# Altium footprint library QFN_Rect_50P_Side_V.PcbLib: 6 footprints
Each footprint in its own frame and in the unit in brackets; x right, y up, seen from the top. Pads: shape width x height; smd on the part's side, far side on the other; paste and mask are expansions set on the pad; w line width, h text height; cw(c..) or ccw(c..) is an arc to the next point about the centre after c.
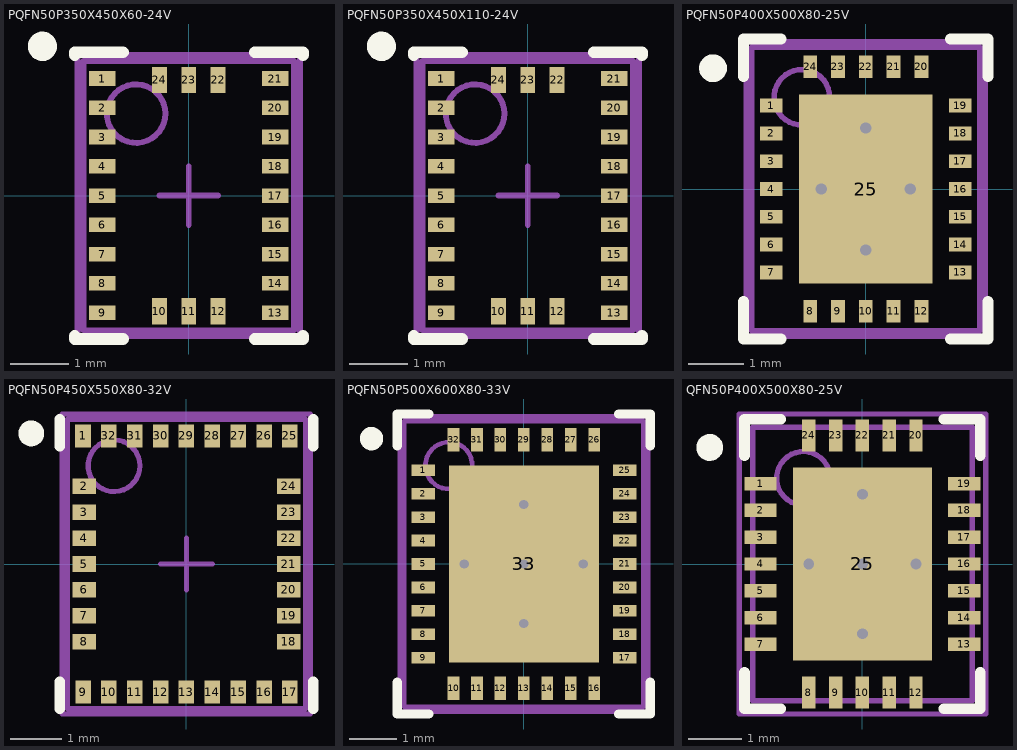
[diagram p0: the footprints below, top view; thin cyan lines are the x and y axes]

## PQFN50P350X450X60-24V [mm] "PQFN, 24-Leads (9x3 pads), Body 3.5x4.5mm, Pitch 0.5mm, NSC Recommended"
height 0.6
pads (24):
  rect 0.45x0.25 smd paste-0.125 mask+0.051: 1(-1.475,2) 2(-1.475,1.5) 3(-1.475,1) 4(-1.475,0.5) 5(-1.475,0) 6(-1.475,-0.5) 7(-1.475,-1) 8(-1.475,-1.5) 9(-1.475,-2) 13(1.475,-2) 14(1.475,-1.5) 15(1.475,-1) 16(1.475,-0.5) 17(1.475,0) 18(1.475,0.5) 19(1.475,1) 20(1.475,1.5) 21(1.475,2)
  rect 0.25x0.45 smd paste-0.125 mask+0.051: 10(-0.5,-1.975) 11(0,-1.975) 12(0.5,-1.975) 22(0.5,1.975) 23(0,1.975) 24(-0.5,1.975)
Top Overlay:
  circle w0.25: c-2.5,2.55 r0.125
  lines w0.2: -1.95,-2.4 -1.95,-2.45 -1.125,-2.45 ; -1.95,2.4 -1.95,2.45 -1.125,2.45 ; 1.125,-2.45 1.95,-2.45 1.95,-2.4 ; 1.125,2.45 1.95,2.45 1.95,2.4
Top Paste:
  rectangle: -1.8,-0.625 -1.35,-0.375
  rectangle: -1.8,-0.125 -1.35,0.125
  rectangle: -1.8,0.375 -1.35,0.625
  rectangle: -1.8,-2.125 -1.35,-1.875
  rectangle: -1.8,-1.625 -1.35,-1.375
  rectangle: -1.8,-1.125 -1.35,-0.875
  rectangle: -1.8,0.875 -1.35,1.125
  rectangle: -1.8,1.375 -1.35,1.625
  rectangle: -1.8,1.875 -1.35,2.125
  region: 1.8,2.125 1.35,2.125 1.35,1.875 1.8,1.875
  region: 1.8,1.625 1.35,1.625 1.35,1.375 1.8,1.375
  region: 1.8,1.125 1.35,1.125 1.35,0.875 1.8,0.875
  region: 1.8,0.625 1.35,0.625 1.35,0.375 1.8,0.375
  region: 1.8,0.125 1.35,0.125 1.35,-0.125 1.8,-0.125
  region: 1.8,-0.375 1.35,-0.375 1.35,-0.625 1.8,-0.625
  region: 1.8,-0.875 1.35,-0.875 1.35,-1.125 1.8,-1.125
  region: 1.8,-1.375 1.35,-1.375 1.35,-1.625 1.8,-1.625
  region: 1.8,-1.875 1.35,-1.875 1.35,-2.125 1.8,-2.125
  region: -0.375,-2.3 -0.375,-1.85 -0.625,-1.85 -0.625,-2.3
  region: 0.125,-2.3 0.125,-1.85 -0.125,-1.85 -0.125,-2.3
  region: 0.625,-2.3 0.625,-1.85 0.375,-1.85 0.375,-2.3
  region: 0.375,2.3 0.375,1.85 0.625,1.85 0.625,2.3
  region: -0.125,2.3 -0.125,1.85 0.125,1.85 0.125,2.3
  region: -0.625,2.3 -0.625,1.85 -0.375,1.85 -0.375,2.3
Mechanical 13:
  circle w0.1: c-0.9,1.4 r0.5
  lines w0.1: -1.8,-2.3 -1.8,2.3 1.8,2.3 1.8,-2.3 -1.8,-2.3
Mechanical 15:
  lines w0.1: -0.5,0 0.5,0 ; 0,-0.5 0,0.5 ; -1.9,-2.4 -1.9,2.4 1.9,2.4 1.9,-2.4 -1.9,-2.4
3D body: height 0.6, standoff 0, extent -1.8,-2.3 1.8,2.3

## PQFN50P350X450X110-24V [mm] "PQFN, 24-Leads (9x3 pads), Body 3.5x4.5mm, Pitch 0.5mm, NSC Recommended"
height 1.1
pads (24):
  rect 0.45x0.25 smd paste-0.125 mask+0.051: 1(-1.475,2) 2(-1.475,1.5) 3(-1.475,1) 4(-1.475,0.5) 5(-1.475,0) 6(-1.475,-0.5) 7(-1.475,-1) 8(-1.475,-1.5) 9(-1.475,-2) 13(1.475,-2) 14(1.475,-1.5) 15(1.475,-1) 16(1.475,-0.5) 17(1.475,0) 18(1.475,0.5) 19(1.475,1) 20(1.475,1.5) 21(1.475,2)
  rect 0.25x0.45 smd paste-0.125 mask+0.051: 10(-0.5,-1.975) 11(0,-1.975) 12(0.5,-1.975) 22(0.5,1.975) 23(0,1.975) 24(-0.5,1.975)
Top Overlay:
  circle w0.25: c-2.5,2.55 r0.125
  lines w0.2: -1.95,-2.4 -1.95,-2.45 -1.125,-2.45 ; -1.95,2.4 -1.95,2.45 -1.125,2.45 ; 1.125,-2.45 1.95,-2.45 1.95,-2.4 ; 1.125,2.45 1.95,2.45 1.95,2.4
Top Paste:
  region: -1.8,-1.875 -1.8,-2.125 -1.35,-2.125 -1.35,-1.875
  region: 0.375,2.3 0.375,1.85 0.625,1.85 0.625,2.3
  region: -0.125,2.3 -0.125,1.85 0.125,1.85 0.125,2.3
  region: -0.625,2.3 -0.625,1.85 -0.375,1.85 -0.375,2.3
  region: -0.375,-2.3 -0.375,-1.85 -0.625,-1.85 -0.625,-2.3
  region: 0.125,-2.3 0.125,-1.85 -0.125,-1.85 -0.125,-2.3
  region: 0.625,-2.3 0.625,-1.85 0.375,-1.85 0.375,-2.3
  region: 1.35,2.125 1.35,1.875 1.8,1.875 1.8,2.125
  region: 1.35,1.625 1.35,1.375 1.8,1.375 1.8,1.625
  region: 1.35,1.125 1.35,0.875 1.8,0.875 1.8,1.125
  region: 1.35,0.625 1.35,0.375 1.8,0.375 1.8,0.625
  region: 1.35,0.125 1.35,-0.125 1.8,-0.125 1.8,0.125
  region: 1.35,-0.375 1.35,-0.625 1.8,-0.625 1.8,-0.375
  region: 1.35,-0.875 1.35,-1.125 1.8,-1.125 1.8,-0.875
  region: 1.35,-1.375 1.35,-1.625 1.8,-1.625 1.8,-1.375
  region: 1.35,-1.875 1.35,-2.125 1.8,-2.125 1.8,-1.875
  region: -1.8,-1.375 -1.8,-1.625 -1.35,-1.625 -1.35,-1.375
  region: -1.8,-0.875 -1.8,-1.125 -1.35,-1.125 -1.35,-0.875
  region: -1.8,-0.375 -1.8,-0.625 -1.35,-0.625 -1.35,-0.375
  region: -1.8,0.125 -1.8,-0.125 -1.35,-0.125 -1.35,0.125
  region: -1.8,0.625 -1.8,0.375 -1.35,0.375 -1.35,0.625
  region: -1.8,1.125 -1.8,0.875 -1.35,0.875 -1.35,1.125
  region: -1.8,1.625 -1.8,1.375 -1.35,1.375 -1.35,1.625
  region: -1.8,2.125 -1.8,1.875 -1.35,1.875 -1.35,2.125
Mechanical 13:
  circle w0.1: c-0.9,1.4 r0.5
  lines w0.1: -1.8,-2.3 1.8,-2.3 1.8,2.3 -1.8,2.3 -1.8,-2.3
Mechanical 15:
  lines w0.1: -0.5,0 0.5,0 ; 0,-0.5 0,0.5 ; -1.9,-2.4 1.9,-2.4 1.9,2.4 -1.9,2.4 -1.9,-2.4
3D body: height 1.1, standoff 0, extent -1.8,-2.3 1.8,2.3

## PQFN50P400X500X80-25V [mm] "PQFN, 24-Leads, Body 5x4mm, Pitch 0.5mm, NSC Recommended"
height 0.8
pads (25):
  rect 0.4x0.25 smd paste-0.2 mask+0.051: 1(-1.7,1.5) 2(-1.7,1) 3(-1.7,0.5) 4(-1.7,0) 5(-1.7,-0.5) 6(-1.7,-1) 7(-1.7,-1.5) 13(1.7,-1.5) 14(1.7,-1) 15(1.7,-0.5) 16(1.7,0) 17(1.7,0.5) 18(1.7,1) 19(1.7,1.5)
  rect 0.25x0.4 smd paste-0.2 mask+0.051: 8(-1,-2.2) 9(-0.5,-2.2) 10(0,-2.2) 11(0.5,-2.2) 12(1,-2.2) 20(1,2.2) 21(0.5,2.2) 22(0,2.2) 23(-0.5,2.2) 24(-1,2.2)
  rect 2.4x3.4 smd paste-1.2 mask+0.051: 25(0,0)
via -0.8,0 diameter 0.5 hole 0.2
via 0,-1.1 diameter 0.5 hole 0.2
via 0,1.1 diameter 0.5 hole 0.2
via 0.8,0 diameter 0.5 hole 0.2
Top Overlay:
  circle w0.25: c-2.75,2.175 r0.125
  lines w0.2: -2.2,-2.025 -2.2,-2.7 -1.525,-2.7 ; -2.2,2.025 -2.2,2.7 -1.525,2.7 ; 1.525,-2.7 2.2,-2.7 2.2,-2.025 ; 1.525,2.7 2.2,2.7 2.2,2.025
Top Paste:
  rectangle: 0.875,2.1 1.125,2.5
  rectangle: 0.375,2.1 0.625,2.5
  rectangle: -0.125,2.1 0.125,2.5
  rectangle: -0.625,2.1 -0.375,2.5
  region: -0.875,2.5 -1.125,2.5 -1.125,2.1 -0.875,2.1
  region: -0.875,-2.1 -1.125,-2.1 -1.125,-2.5 -0.875,-2.5
  rectangle: -0.625,-2.5 -0.375,-2.1
  rectangle: -0.125,-2.5 0.125,-2.1
  rectangle: 0.375,-2.5 0.625,-2.1
  region: 2,-1.375 1.6,-1.375 1.6,-1.625 2,-1.625
  region: 2,-0.875 1.6,-0.875 1.6,-1.125 2,-1.125
  region: 2,-0.375 1.6,-0.375 1.6,-0.625 2,-0.625
  region: 2,0.125 1.6,0.125 1.6,-0.125 2,-0.125
  region: 2,0.625 1.6,0.625 1.6,0.375 2,0.375
  region: 2,1.125 1.6,1.125 1.6,0.875 2,0.875
  region: 2,1.625 1.6,1.625 1.6,1.375 2,1.375
  rectangle: -2,1.375 -1.6,1.625
  rectangle: 0.15,0.15 1.1,1.6
  region: -0.15,1.6 -1.1,1.6 -1.1,0.15 -0.15,0.15
  region: -0.15,-0.15 -1.1,-0.15 -1.1,-1.6 -0.15,-1.6
  rectangle: 0.15,-1.6 1.1,-0.15
  rectangle: -2,0.875 -1.6,1.125
  rectangle: -2,0.375 -1.6,0.625
  rectangle: -2,-0.125 -1.6,0.125
  rectangle: -2,-0.625 -1.6,-0.375
  rectangle: -2,-1.125 -1.6,-0.875
  rectangle: -2,-1.625 -1.6,-1.375
  rectangle: 0.875,-2.5 1.125,-2.1
Mechanical 13:
  circle w0.1: c-1.15,1.65 r0.5
  lines w0.1: -2.05,-2.55 2.05,-2.55 2.05,2.55 -2.05,2.55 -2.05,-2.55
Mechanical 15:
  lines w0.1: -0.5,0 0.5,0 ; 0,-0.5 0,0.5 ; -2.15,-2.65 2.15,-2.65 2.15,2.65 -2.15,2.65 -2.15,-2.65
3D body: height 0.8, standoff 0, extent -2.05,-2.55 2.05,2.55

## PQFN50P450X550X80-32V [mm] "PQFN, 32-Leads (9x7 pads), Body 4.5x5.5mm, Pitch 0.5mm, NSC Recommended"
height 0.8
pads (32):
  rect 0.3x0.45 smd paste-0.15 mask+0.051: 1(-2,2.475) 9(-2,-2.475) 10(-1.5,-2.475) 11(-1,-2.475) 12(-0.5,-2.475) 13(0,-2.475) 14(0.5,-2.475) 15(1,-2.475) 16(1.5,-2.475) 17(2,-2.475) 25(2,2.475) 26(1.5,2.475) 27(1,2.475) 28(0.5,2.475) 29(0,2.475) 30(-0.5,2.475) 31(-1,2.475) 32(-1.5,2.475)
  rect 0.45x0.3 smd paste-0.15 mask+0.051: 2(-1.975,1.5) 3(-1.975,1) 4(-1.975,0.5) 5(-1.975,0) 6(-1.975,-0.5) 7(-1.975,-1) 8(-1.975,-1.5) 18(1.975,-1.5) 19(1.975,-1) 20(1.975,-0.5) 21(1.975,0) 22(1.975,0.5) 23(1.975,1) 24(1.975,1.5)
Top Overlay:
  circle w0.25: c-3,2.525 r0.125
  lines w0.2: -2.45,-2.8 -2.45,-2.275 ; -2.45,2.275 -2.45,2.8 ; 2.45,-2.8 2.45,-2.275 ; 2.45,2.275 2.45,2.8
Top Paste:
  region: -2.15,2.8 -2.15,2.35 -1.85,2.35 -1.85,2.8
  region: -1.65,2.8 -1.65,2.35 -1.35,2.35 -1.35,2.8
  region: -1.15,2.8 -1.15,2.35 -0.85,2.35 -0.85,2.8
  region: -0.65,2.8 -0.65,2.35 -0.35,2.35 -0.35,2.8
  region: -0.15,2.8 -0.15,2.35 0.15,2.35 0.15,2.8
  region: 0.35,2.8 0.35,2.35 0.65,2.35 0.65,2.8
  region: 0.85,2.8 0.85,2.35 1.15,2.35 1.15,2.8
  region: 1.35,2.8 1.35,2.35 1.65,2.35 1.65,2.8
  region: 1.85,2.8 1.85,2.35 2.15,2.35 2.15,2.8
  region: 2.3,1.65 1.85,1.65 1.85,1.35 2.3,1.35
  region: 2.3,1.15 1.85,1.15 1.85,0.85 2.3,0.85
  region: 2.3,0.65 1.85,0.65 1.85,0.35 2.3,0.35
  region: 2.3,0.15 1.85,0.15 1.85,-0.15 2.3,-0.15
  region: 2.3,-0.35 1.85,-0.35 1.85,-0.65 2.3,-0.65
  region: 2.3,-0.85 1.85,-0.85 1.85,-1.15 2.3,-1.15
  region: 2.3,-1.35 1.85,-1.35 1.85,-1.65 2.3,-1.65
  region: 2.15,-2.8 2.15,-2.35 1.85,-2.35 1.85,-2.8
  region: 1.65,-2.8 1.65,-2.35 1.35,-2.35 1.35,-2.8
  region: 1.15,-2.8 1.15,-2.35 0.85,-2.35 0.85,-2.8
  region: 0.65,-2.8 0.65,-2.35 0.35,-2.35 0.35,-2.8
  region: 0.15,-2.8 0.15,-2.35 -0.15,-2.35 -0.15,-2.8
  region: -0.35,-2.8 -0.35,-2.35 -0.65,-2.35 -0.65,-2.8
  region: -0.85,-2.8 -0.85,-2.35 -1.15,-2.35 -1.15,-2.8
  region: -1.35,-2.8 -1.35,-2.35 -1.65,-2.35 -1.65,-2.8
  region: -1.85,-2.8 -1.85,-2.35 -2.15,-2.35 -2.15,-2.8
  rectangle: -2.3,-1.65 -1.85,-1.35
  rectangle: -2.3,-1.15 -1.85,-0.85
  rectangle: -2.3,-0.65 -1.85,-0.35
  rectangle: -2.3,-0.15 -1.85,0.15
  rectangle: -2.3,0.35 -1.85,0.65
  rectangle: -2.3,0.85 -1.85,1.15
  rectangle: -2.3,1.35 -1.85,1.65
Mechanical 13:
  circle w0.1: c-1.4,1.9 r0.5
  lines w0.1: -2.3,-2.8 2.3,-2.8 2.3,2.8 -2.3,2.8 -2.3,-2.8
Mechanical 15:
  lines w0.1: -0.5,0 0.5,0 ; 0,-0.5 0,0.5 ; 2.38,-2.9 -2.4,-2.9 -2.4,2.9 2.38,2.9 ; 2.4,-2.9 2.4,2.9
3D body: height 0.8, standoff 0, extent -2.299,-2.799 2.299,2.799

## PQFN50P500X600X80-33V [mm] "PQFN, 32-Leads, Body 6x5mm, Pitch 0.5mm, NSC Recommended"
height 0.8
pads (33):
  rect 0.5x0.25 smd paste-0.25 mask+0.051: 1(-2.15,2) 2(-2.15,1.5) 3(-2.15,1) 4(-2.15,0.5) 5(-2.15,0) 6(-2.15,-0.5) 7(-2.15,-1) 8(-2.15,-1.5) 9(-2.15,-2) 17(2.15,-2) 18(2.15,-1.5) 19(2.15,-1) 20(2.15,-0.5) 21(2.15,0) 22(2.15,0.5) 23(2.15,1) 24(2.15,1.5) 25(2.15,2)
  rect 0.25x0.5 smd paste-0.25 mask+0.051: 10(-1.5,-2.65) 11(-1,-2.65) 12(-0.5,-2.65) 13(0,-2.65) 14(0.5,-2.65) 15(1,-2.65) 16(1.5,-2.65) 26(1.5,2.65) 27(1,2.65) 28(0.5,2.65) 29(0,2.65) 30(-0.5,2.65) 31(-1,2.65) 32(-1.5,2.65)
  rect 3.2x4.2 smd paste-1.6 mask+0.051: 33(0,0)
via -1.27,0 diameter 0.5 hole 0.2
via 0,-1.27 diameter 0.5 hole 0.2
via 0,0 diameter 0.5 hole 0.2
via 0,1.27 diameter 0.5 hole 0.2
via 1.27,0 diameter 0.5 hole 0.2
Top Overlay:
  circle w0.25: c-3.25,2.675 r0.125
  lines w0.2: -2.7,-2.525 -2.7,-3.2 -2.025,-3.2 ; -2.7,2.525 -2.7,3.2 -2.025,3.2 ; 2.025,-3.2 2.7,-3.2 2.7,-2.525 ; 2.025,3.2 2.7,3.2 2.7,2.525
Top Paste:
  rectangle: 0.15,-2 1.5,-0.15
  region: -0.15,-0.15 -1.5,-0.15 -1.5,-2 -0.15,-2
  region: -0.15,2 -1.5,2 -1.5,0.15 -0.15,0.15
  rectangle: 0.15,0.15 1.5,2
  rectangle: 2,1.875 2.5,2.125
  rectangle: 2,1.375 2.5,1.625
  rectangle: 2,0.875 2.5,1.125
  rectangle: 2,0.375 2.5,0.625
  rectangle: 2,-0.125 2.5,0.125
  rectangle: 2,-0.625 2.5,-0.375
  rectangle: 2,-1.125 2.5,-0.875
  rectangle: 2,-1.625 2.5,-1.375
  rectangle: 2,-2.125 2.5,-1.875
  region: 1.625,2.5 1.625,3 1.375,3 1.375,2.5
  region: 1.125,2.5 1.125,3 0.875,3 0.875,2.5
  region: 0.625,2.5 0.625,3 0.375,3 0.375,2.5
  region: 0.125,2.5 0.125,3 -0.125,3 -0.125,2.5
  region: -0.375,2.5 -0.375,3 -0.625,3 -0.625,2.5
  region: -0.875,2.5 -0.875,3 -1.125,3 -1.125,2.5
  region: -1.375,2.5 -1.375,3 -1.625,3 -1.625,2.5
  region: -2,2.125 -2.5,2.125 -2.5,1.875 -2,1.875
  region: -2,1.625 -2.5,1.625 -2.5,1.375 -2,1.375
  region: -2,1.125 -2.5,1.125 -2.5,0.875 -2,0.875
  region: -2,0.625 -2.5,0.625 -2.5,0.375 -2,0.375
  region: -2,0.125 -2.5,0.125 -2.5,-0.125 -2,-0.125
  region: -2,-0.375 -2.5,-0.375 -2.5,-0.625 -2,-0.625
  region: -2,-0.875 -2.5,-0.875 -2.5,-1.125 -2,-1.125
  region: -2,-1.375 -2.5,-1.375 -2.5,-1.625 -2,-1.625
  region: -2,-1.875 -2.5,-1.875 -2.5,-2.125 -2,-2.125
  region: -1.625,-2.5 -1.625,-3 -1.375,-3 -1.375,-2.5
  region: -1.125,-2.5 -1.125,-3 -0.875,-3 -0.875,-2.5
  region: -0.625,-2.5 -0.625,-3 -0.375,-3 -0.375,-2.5
  region: -0.125,-2.5 -0.125,-3 0.125,-3 0.125,-2.5
  region: 0.375,-2.5 0.375,-3 0.625,-3 0.625,-2.5
  region: 0.875,-2.5 0.875,-3 1.125,-3 1.125,-2.5
  region: 1.375,-2.5 1.375,-3 1.625,-3 1.625,-2.5
Mechanical 13:
  circle w0.1: c-1.6,2.1 r0.5
  lines w0.1: -2.55,-3.05 2.55,-3.05 2.55,3.05 -2.55,3.05 -2.55,-3.05
Mechanical 15:
  lines w0.1: -0.5,0 0.5,0 ; 0,-0.5 0,0.5 ; -2.65,-3.15 2.65,-3.15 2.65,3.15 -2.65,3.15 -2.65,-3.15
3D body: height 0.8, standoff 0, extent -2.549,-3.049 2.549,3.049

## QFN50P400X500X80-25V [mm] "QFN, 24-Leads, Body 5x4mm, Pitch 0.5mm, NSC Recommended"
height 0.8
pads (25):
  rect 0.6x0.25 smd paste-0.3 mask+0.051: 1(-1.9,1.5) 2(-1.9,1) 3(-1.9,0.5) 4(-1.9,0) 5(-1.9,-0.5) 6(-1.9,-1) 7(-1.9,-1.5) 13(1.9,-1.5) 14(1.9,-1) 15(1.9,-0.5) 16(1.9,0) 17(1.9,0.5) 18(1.9,1) 19(1.9,1.5)
  rect 0.25x0.6 smd paste-0.3 mask+0.051: 8(-1,-2.4) 9(-0.5,-2.4) 10(0,-2.4) 11(0.5,-2.4) 12(1,-2.4) 20(1,2.4) 21(0.5,2.4) 22(0,2.4) 23(-0.5,2.4) 24(-1,2.4)
  rect 2.6x3.6 smd paste-1.3 mask+0.051: 25(0,0)
via 1,0 diameter 0.5 hole 0.2
via 0,1.3 diameter 0.5 hole 0.2
via 0,-1.3 diameter 0.5 hole 0.2
via -1,0 diameter 0.5 hole 0.2
via 0,0 diameter 0.5 hole 0.2
Top Overlay:
  circle w0.25: c-2.85,2.175 r0.125
  lines w0.2: -2.2,-2.025 -2.2,-2.7 -1.525,-2.7 ; -2.2,2.025 -2.2,2.7 -1.525,2.7 ; 1.525,-2.7 2.2,-2.7 2.2,-2.025 ; 1.525,2.7 2.2,2.7 2.2,2.025
Top Paste:
  rectangle: 0.1,-1.7 1.2,-0.1
  region: -0.1,-0.1 -1.2,-0.1 -1.2,-1.7 -0.1,-1.7
  region: -0.1,1.7 -1.2,1.7 -1.2,0.1 -0.1,0.1
  rectangle: 0.1,0.1 1.2,1.7
  region: 2.4,1.625 1.7,1.625 1.7,1.375 2.4,1.375
  region: 2.4,1.125 1.7,1.125 1.7,0.875 2.4,0.875
  region: 2.4,0.625 1.7,0.625 1.7,0.375 2.4,0.375
  region: 2.4,0.125 1.7,0.125 1.7,-0.125 2.4,-0.125
  region: 2.4,-0.375 1.7,-0.375 1.7,-0.625 2.4,-0.625
  region: 2.4,-0.875 1.7,-0.875 1.7,-1.125 2.4,-1.125
  region: 2.4,-1.375 1.7,-1.375 1.7,-1.625 2.4,-1.625
  region: 0.875,2.9 0.875,2.2 1.125,2.2 1.125,2.9
  region: 0.375,2.9 0.375,2.2 0.625,2.2 0.625,2.9
  region: -0.125,2.9 -0.125,2.2 0.125,2.2 0.125,2.9
  region: -0.625,2.9 -0.625,2.2 -0.375,2.2 -0.375,2.9
  region: -1.125,2.9 -1.125,2.2 -0.875,2.2 -0.875,2.9
  rectangle: -2.4,1.375 -1.7,1.625
  rectangle: -2.4,0.875 -1.7,1.125
  rectangle: -2.4,0.375 -1.7,0.625
  rectangle: -2.4,-0.125 -1.7,0.125
  rectangle: -2.4,-0.625 -1.7,-0.375
  rectangle: -2.4,-1.125 -1.7,-0.875
  rectangle: -2.4,-1.625 -1.7,-1.375
  region: -0.875,-2.9 -0.875,-2.2 -1.125,-2.2 -1.125,-2.9
  region: -0.375,-2.9 -0.375,-2.2 -0.625,-2.2 -0.625,-2.9
  region: 0.125,-2.9 0.125,-2.2 -0.125,-2.2 -0.125,-2.9
  region: 0.625,-2.9 0.625,-2.2 0.375,-2.2 0.375,-2.9
  region: 1.125,-2.9 1.125,-2.2 0.875,-2.2 0.875,-2.9
Mechanical 13:
  circle w0.1: c-1.1,1.6 r0.5
  lines w0.1: -2.05,-2.55 -2.05,2.55 2.05,2.55 2.05,-2.55 -2.05,-2.55
Mechanical 15:
  lines w0.1: -0.5,0 0.5,0 ; 0,-0.5 0,0.5 ; -2.3,-2.8 -2.3,2.8 2.3,2.8 2.3,-2.8 -2.3,-2.8
3D body: height 0.8, standoff 0, extent -2.05,-2.55 2.05,2.55